# EAGLE library part 6JM6_6JN6 (library tubes_pmillett)
6JM6 or 6JN6 sweep tubes Two different grid connections, pin 5 for 6JM6, pin 11 for 6JN6 6JN6 has top cap plate connection
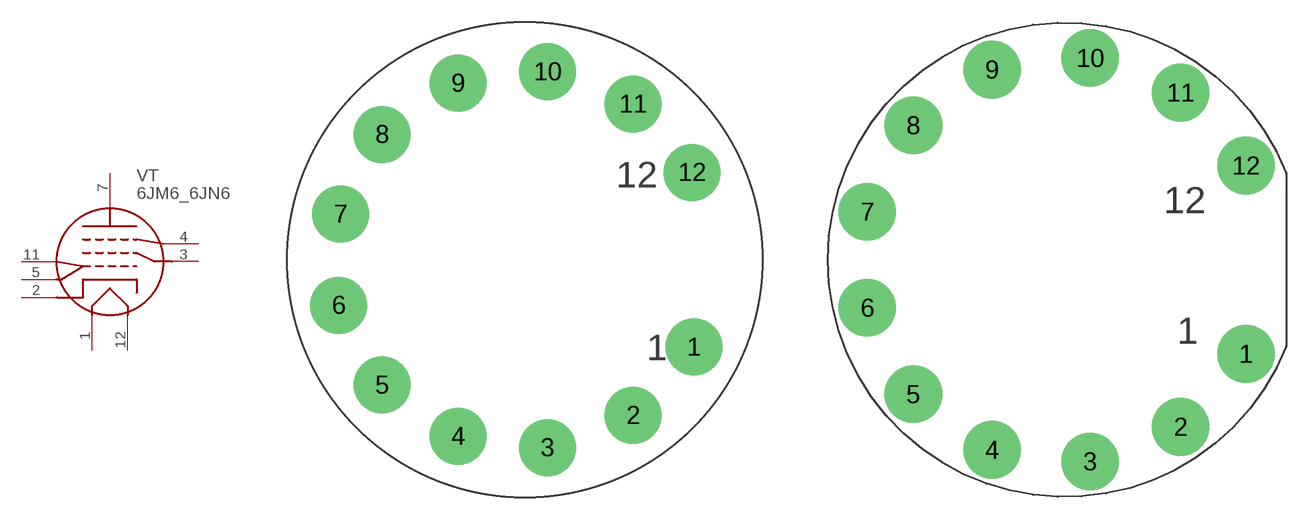
[diagram p8: symbol with the pads of COMPACTRON_BOT; footprints COMPACTRON_BOT, COMPACTRON_BOT_2]

Designator prefix VT

## 6JM6_6JN6  [COMPACTRON_BOT]
1  F1  pas
2  K  pas
3  G2  pas
4  G3  pas
5  G1B  pas
7  A  pas
11  G1A  pas
12  F2  pas

## 6JM6_6JN6_2  [COMPACTRON_BOT_2]
Pads as for COMPACTRON_BOT

## Footprint COMPACTRON_BOT (pad centres in mm)
12-PIN COMPACTRON MTD BOTTOM SIDE
drill 2.184 pad 3.81: 1 11.303,-5.842; 2 7.239,-10.414; 3 1.524,-12.573; 4 -4.445,-11.811; 5 -9.525,-8.382; 6 -12.446,-3.048; 7 -12.319,3.048; 8 -9.525,8.382; 9 -4.445,11.811; 10 1.524,12.573; 11 7.239,10.414; 12 11.176,5.842

## Footprint COMPACTRON_BOT_2 (pad centres in mm)
12-PIN COMPACTRON, MOUNTED BOTTOM SIDE 1-1/16" PIN CICLE, LIKE SURPLUS SALES
drill 2.184 pad 3.81: 1 11.938,-6.223; 2 7.62,-11.049; 3 1.651,-13.335; 4 -4.826,-12.573; 5 -10.033,-8.89; 6 -13.081,-3.175; 7 -13.081,3.175; 8 -10.033,8.89; 9 -4.826,12.573; 10 1.651,13.335; 11 7.62,11.049; 12 11.938,6.223